# Altium footprint library MOLEX MICROFIT CONNECTORS.PcbLib: 14 footprints
Each footprint in its own frame and in the unit in brackets; x right, y up, seen from the top. Pads: shape width x height; smd on the part's side, far side on the other; paste and mask are expansions set on the pad; w line width, h text height; cw(c..) or ccw(c..) is an arc to the next point about the centre after c.
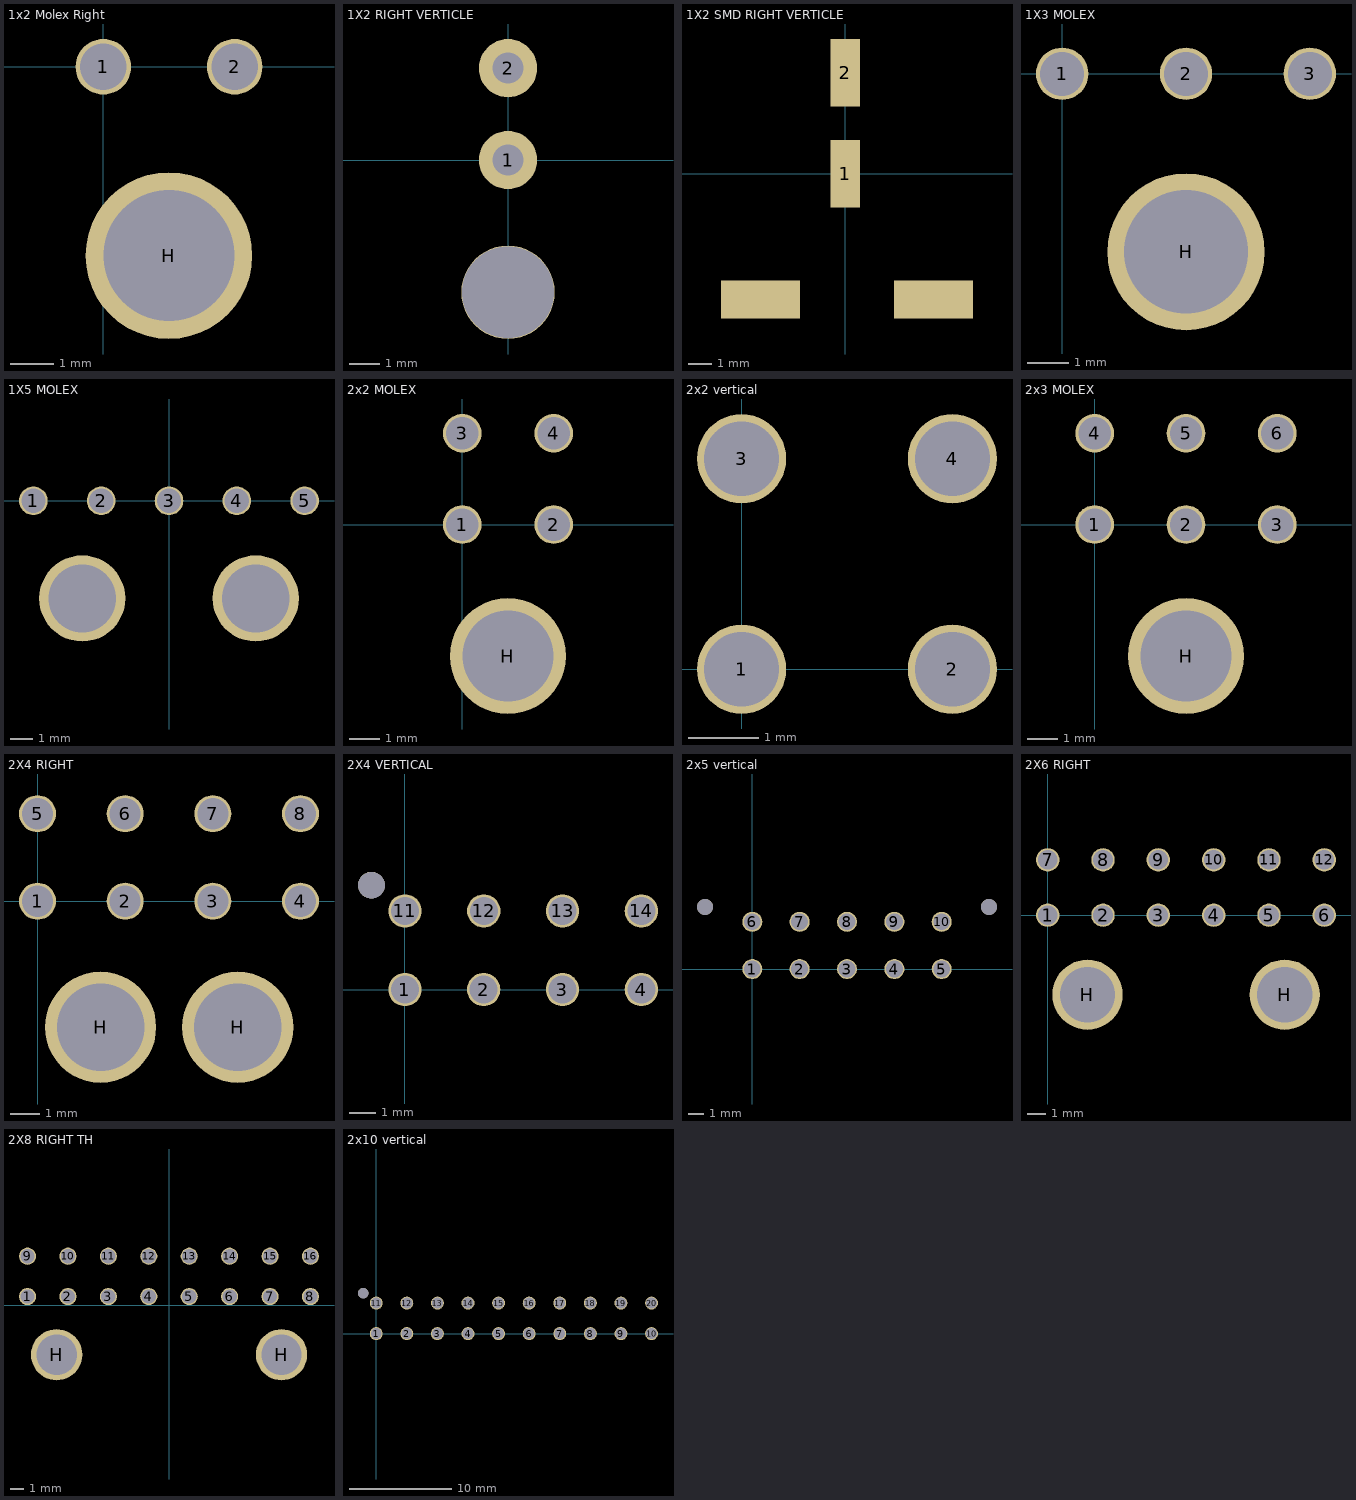
[diagram p0: the footprints below, top view; thin cyan lines are the x and y axes]

## 1x2 Molex Right [mil] "6 posistion board type connector"
pads (3):
  round 50 hole 42: 1(0,0) 2(118.2,0)
  round 150 hole 118: H(59,-170)
3D body: height 223.43, standoff -127.17, extent -129.92,-354.88 250,34.88
3D body: height 279.53, standoff -3.15, extent -103,-680.59 223.38,-129.41

## 1X2 RIGHT VERTICLE [mil]
pads (3):
  round 75 hole 40: 1(0,0) 2(0,118)
  round 120 hole 118: ""(0,-170)
3D body: height 350.16, standoff -120.31, extent -140.75,-351.94 140.75,129.95
3D body: height 423.78, standoff -2.6, extent -103.94,-692.48 103.94,-141.29

## 1X2 SMD RIGHT VERTICLE [mil]
pads (4):
  rect 50x115 smd: 1(0,0) 2(0,173)
  rect 135x65 smd: ""(-145,-215) ""(151,-215)
3D body: height -64.88, standoff -410.16, extent -207.64,-397.07 211.65,209.23

## 1X3 MOLEX [mil]
pads (4):
  round 50 hole 42: 1(0,0) 2(118.2,0) 3(236.4,0)
  round 150 hole 118: H(118.2,-170)
3D body: height 223.43, standoff -127.17, extent -129.01,-349.77 369.01,40
3D body: height 279.53, standoff -4.33, extent -74.1,-673.7 313.7,-122.52

## 1X5 MOLEX [mil]
pads (7):
  round 50 hole 42: 1(-236,0) 2(-118,0) 3(0,0) 4(118,0) 5(236,0)
  round 150 hole 118: ""(-151,-170) ""(151,-170)
3D body: height 213.43, standoff -137.17, extent -366.92,-354.88 366.93,34.89
3D body: height 259.53, standoff -24.33, extent -312.01,-680 312.01,-128.82

## 2x2 MOLEX [mil]
pads (5):
  round 50 hole 42: 1(0,0) 2(118.2,0) 3(0,118) 4(118.2,118)
  round 150 hole 118: H(59,-170)
3D body: height 340.35, standoff -130.12, extent -139.76,-354.88 259.84,127.01
3D body: height 413.78, standoff -12.6, extent -102.36,-667.48 223.23,-116.29

## 2x2 vertical [mil]
pads (4):
  round 50 hole 42: 1(0,0) 2(118.2,0) 3(0,118) 4(118.2,118)
3D body: height 70.28, standoff -445.08, extent -138.79,-94.11 260.81,251.16

## 2x3 MOLEX [mil]
pads (7):
  round 50 hole 42: 1(0,0) 2(118.2,0) 3(236.4,0) 4(0,118) 5(118.2,118) 6(236.4,118)
  round 150 hole 118: H(118.2,-170)
3D body: height 413.78, standoff -12.6, extent -73.9,-677.47 313.9,-126.29
3D body: height 340.35, standoff -130.12, extent -138.86,-349.77 378.86,132.12

## 2X4 RIGHT [mil]
pads (10):
  round 50 hole 42: 1(0,0) 2(118.2,0) 3(236.4,0) 4(354.6,0) 5(0,118) 6(118.2,118) 7(236.4,118) 8(354.6,118)
  round 150 hole 118: H(85,-170) H(270,-170)
3D body: height 423.78, standoff -2.6, extent -72.75,-687.48 433.16,-136.3
3D body: height 350.16, standoff -120.31, extent -142.91,-350.07 492.92,131.82

## 2X4 VERTICAL [mil]
pads (9):
  round 50 hole 42: 1(0,0) 2(118.11,0) 3(236.22,0) 4(354.6,0) 11(0,118) 12(118.2,118) 13(236.4,118) 14(354.6,118)
  round 40.16 hole 40.16: ""(-50.39,156.69)

## 2x5 vertical [mil]
pads (12):
  round 50 hole 42: 1(0,0) 2(118.2,0) 3(236.4,0) 4(354.6,0) 5(472.8,0) 6(0,118) 7(118.2,118) 8(236.4,118) 9(354.6,118) 10(472.8,118)
  round 40 hole 40: ""(-118,155) ""(590.8,155)
3D body: height 395.08, standoff -120.28, extent -140.96,-98.11 612.98,247.16

## 2X6 RIGHT [mil]
pads (14):
  round 50 hole 42: 1(0,0) 2(118.2,0) 3(236.4,0) 4(354.6,0) 5(472.8,0) 6(591,0) 7(0,118) 8(118.2,118) 9(236.4,118) 10(354.6,118) 11(472.8,118) 12(591,118)
  round 150 hole 118: H(85,-170) H(506.4,-170)
3D body: height 335.83, standoff -134.65, extent -138.02,-349.07 734.03,132.82

## 2X8 RIGHT TH [mil]
pads (18):
  round 50 hole 42: 1(-413.7,26) 2(-295.5,26) 3(-177.3,26) 4(-59.1,26) 5(59.1,26) 6(177.3,26) 7(295.5,26) 8(413.7,26) 9(-413.7,144) 10(-295.5,144) 11(-177.3,144) 12(-59.1,144) 13(59.1,144) 14(177.3,144) 15(295.5,144) 16(413.7,144)
  round 150 hole 118: H(-328.7,-144) H(329.1,-144)
3D body: height 347.64, standoff -122.83, extent -553.83,-324.07 554.44,157.82

## 2x10 vertical [mil]
pads (21):
  round 50 hole 42: 1(0,0) 2(118.11,0) 3(236.22,0) 4(354.6,0) 5(472.8,0) 6(591,0) 7(709.2,0) 8(827.4,0) 9(945.6,0) 10(1063.8,0) 11(0,118) 12(118.2,118) 13(236.4,118) 14(354.6,118) 15(472.8,118) 16(591,118) 17(709.2,118) 18(827.4,118) 19(945.6,118) 20(1063.8,118)
  round 40.16 hole 40.16: ""(-50.39,156.69)
3D body: height 395.08, standoff -120.28, extent -141.24,-97.11 1203.25,248.16